# Altium schematic symbol library Schlib1.SchLib: 9 symbols
Pins are listed as number, name and electrical type; pins without a type are passive.

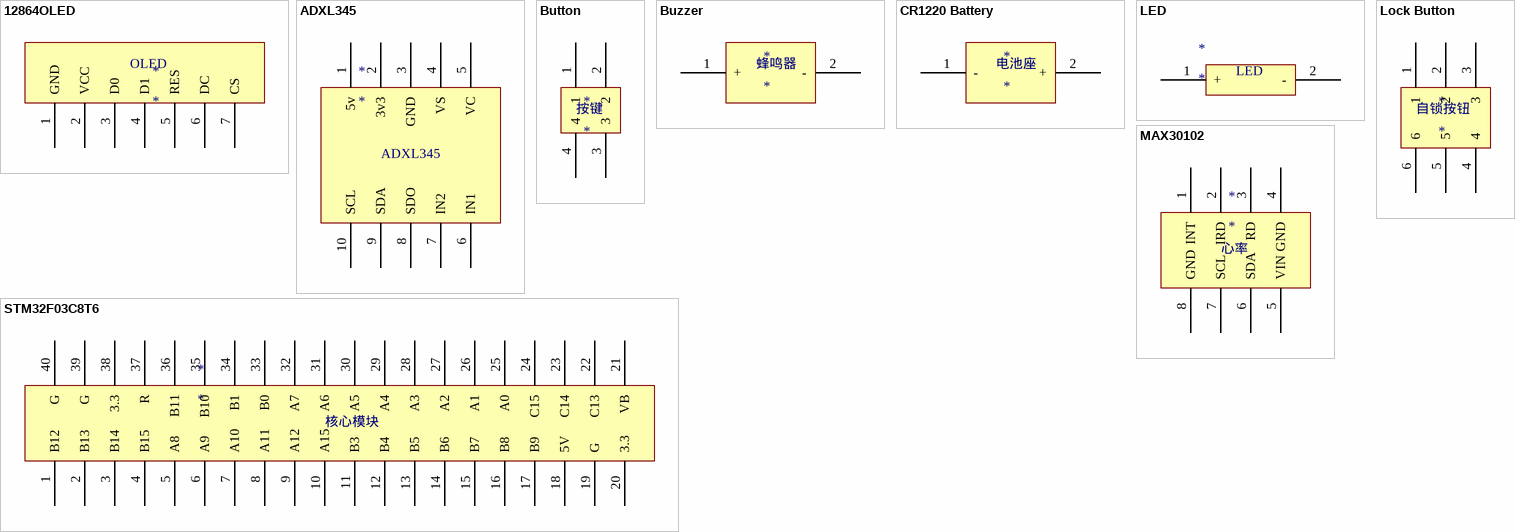
[diagram p0: symbols 12864OLED to STM32F03C8T6]

## 12864OLED
designator *
footprint OLED
pins: 1 GND, 2 VCC, 3 D0, 4 D1, 5 RES, 6 DC, 7 CS
text: OLED

## ADXL345
designator *
footprint ADXL345
pins: 1 5v, 2 3v3, 3 GND, 4 VS, 5 VC, 6 IN1, 7 IN2, 8 SDO, 9 SDA, 10 SCL

## Button
designator *
footprint Button
pins: 1, 2, 3, 4
text: 按键

## Buzzer
designator *
footprint Buzzer
pins: 1 +, 2 -
text: 蜂鸣器

## CR1220 Battery
designator *
footprint CR1220 Battery
pins: 1 -, 2 +
text: 电池座

## LED
designator *
footprint LED
pins: 1 +, 2 -

## Lock Button
designator *
footprint Lock Button
pins: 1, 2, 3, 4, 5, 6
text: 自锁按钮

## MAX30102
designator *
footprint MAX30102
pins: 1 INT, 2 IRD, 3 RD, 4 GND, 5 VIN, 6 SDA, 7 SCL, 8 GND
text: 心率

## STM32F03C8T6
designator *
footprint STM32F103C8T6
pins: 1 B12, 2 B13, 3 B14, 4 B15, 5 A8, 6 A9, 7 A10, 8 A11, 9 A12, 10 A15, 11 B3, 12 B4, 13 B5, 14 B6, 15 B7, 16 B8, 17 B9, 18 5V, 19 G, 20 3.3, 21 VB, 22 C13, 23 C14, 24 C15, 25 A0, 26 A1, 27 A2, 28 A3, 29 A4, 30 A5, 31 A6, 32 A7, 33 B0, 34 B1, 35 B10, 36 B11, 37 R, 38 3.3, 39 G, 40 G
text: 核心模块